# EAGLE library part CON_01X13 (library MF_Connectors)
Library: MF_Connectors Description: Header Connector with 13 Positions and 01 Rows. Use the LABEL Attribute to label the pin on the schematic and PCB. You can remove the attributes on the PCB by using the SMASH function on the part and then deleting the text.
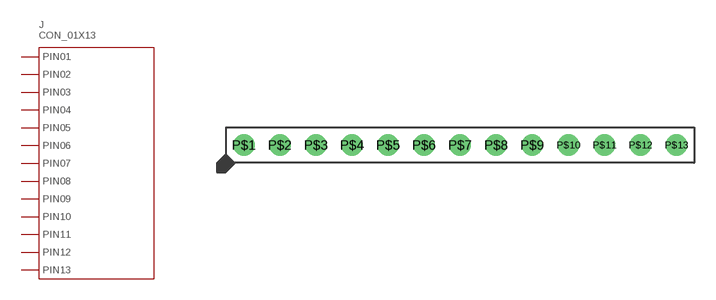
[diagram p10: symbol with the pads of PTH_2.54MM_01X13; footprint PTH_2.54MM_01X13]

Designator prefix J

## CON_01X13_PTH_2.54MM (HOUSEPART: YES; MPN: MF-CON-2.54mm-01x13; POPULATE: 1; URL: https://factory.macrofab.com/part/MF-CON-2.54mm-01x13; VALUE: MF-CON-2.54mm-01x13)  [PTH_2.54MM_01X13]
P$1  PIN1
P$2  PIN2
P$3  PIN3
P$4  PIN4
P$5  PIN5
P$6  PIN6
P$7  PIN7
P$8  PIN8
P$9  PIN9
P$10  PIN10
P$11  PIN11
P$12  PIN12
P$13  PIN13

## Footprint PTH_2.54MM_01X13 (pad centres in mm)
Description: Package for 2.54MM Pitch Header 13 Position. Based on 4UCON 00834.
drill 1: P$1 -15.24,0; P$2 -12.7,0; P$3 -10.16,0; P$4 -7.62,0; P$5 -5.08,0; P$6 -2.54,0; P$7 0,0; P$8 2.54,0; P$9 5.08,0; P$10 7.62,0; P$11 10.16,0; P$12 12.7,0; P$13 15.24,0